# EAGLE library part 8X8-DOT-MED-RG (library FHD-Actives)
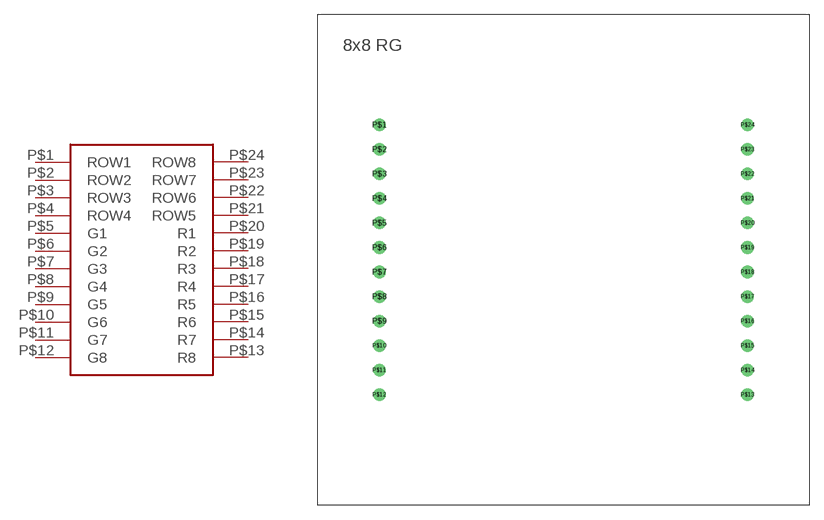
[diagram p3: symbol with the pads of DOT-8X8-RG; footprint DOT-8X8-RG]

Designator prefix -

## 8X8-DOT-MED-RG  [DOT-8X8-RG]
P$1  ROW1
P$2  ROW2
P$3  ROW3
P$4  ROW4
P$5  G1
P$6  G2
P$7  G3
P$8  G4
P$9  G5
P$10  G6
P$11  G7
P$12  G8
P$13  R8
P$14  R7
P$15  R6
P$16  R5
P$17  R4
P$18  R3
P$19  R2
P$20  R1
P$21  ROW5
P$22  ROW6
P$23  ROW7
P$24  ROW8

## Footprint DOT-8X8-RG (pad centres in mm)
drill 0.8: P$1 -19.05,13.97; P$2 -19.05,11.43; P$3 -19.05,8.89; P$4 -19.05,6.35; P$5 -19.05,3.81; P$6 -19.05,1.27; P$7 -19.05,-1.27; P$8 -19.05,-3.81; P$9 -19.05,-6.35; P$10 -19.05,-8.89; P$11 -19.05,-11.43; P$12 -19.05,-13.97; P$13 19.05,-13.97; P$14 19.05,-11.43; P$15 19.05,-8.89; P$16 19.05,-6.35; P$17 19.05,-3.81; P$18 19.05,-1.27; P$19 19.05,1.27; P$20 19.05,3.81; P$21 19.05,6.35; P$22 19.05,8.89; P$23 19.05,11.43; P$24 19.05,13.97